# Altium footprint library EncoderLib.PcbLib: 3 footprints
Each footprint in its own frame and in the unit in brackets; x right, y up, seen from the top. Pads: shape width x height; smd on the part's side, far side on the other; paste and mask are expansions set on the pad; w line width, h text height; cw(c..) or ccw(c..) is an arc to the next point about the centre after c.
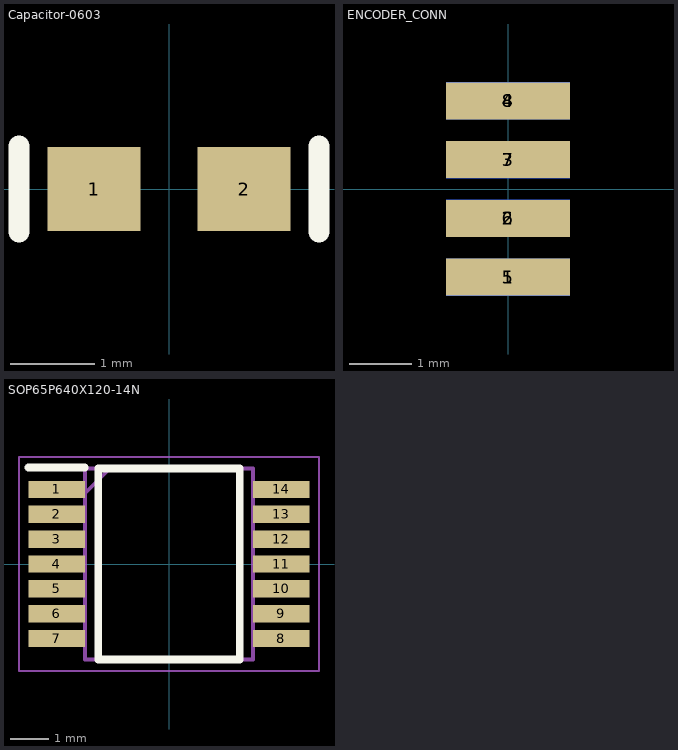
[diagram p0: the footprints below, top view; thin cyan lines are the x and y axes]

## Capacitor-0603 [mm] "Chip Capacitor; Body 1.6 x 0.8 mm (LxW typ)"
height 0.87
pads (2):
  rect 1.1x1 smd: 1(-0.889,0) 2(0.889,0)
Top Overlay:
  lines w0.254: -1.778,-0.508 -1.778,0.508 ; 1.778,-0.508 1.778,0.508
3D body "cap0603.STEP": height 0.89, standoff -0.01, extent -1.27,-0.508 1.33,0.492

## ENCODER_CONN [mm]
pads (8):
  rect 2x0.6 smd far side: 1(0,-1.425) 2(0,-0.475) 3(0,0.475) 4(0,1.425)
  rect 2x0.6 smd: 5(0,-1.425) 6(0,-0.475) 7(0,0.475) 8(0,1.425)

## SOP65P640X120-14N [mm]
pads (14):
  rect 1.475x0.45 smd: 1(-2.938,1.95) 2(-2.938,1.3) 3(-2.938,0.65) 4(-2.938,0) 5(-2.938,-0.65) 6(-2.938,-1.3) 7(-2.938,-1.95) 8(2.938,-1.95) 9(2.938,-1.3) 10(2.938,-0.65) 11(2.938,0) 12(2.938,0.65) 13(2.938,1.3) 14(2.938,1.95)
Top Overlay:
  lines w0.2: -3.675,2.525 -2.2,2.525 ; -1.85,-2.5 -1.85,2.5 1.85,2.5 1.85,-2.5 -1.85,-2.5
Mechanical 13:
  lines w0.1: -2.2,1.85 -1.55,2.5 ; -2.2,-2.5 -2.2,2.5 2.2,2.5 2.2,-2.5 -2.2,-2.5
Mechanical 15:
  lines w0.05: -3.925,-2.8 -3.925,2.8 3.925,2.8 3.925,-2.8 -3.925,-2.8
3D body "AS5047P-ATSM.stp": height 1.2, standoff 0, extent -3.2,-2.5 3.2,2.5